# EAGLE library part MPQ4420Q (library NicksParts)
High Efficiency 2A, 36V, Synchronous Step Down Converter
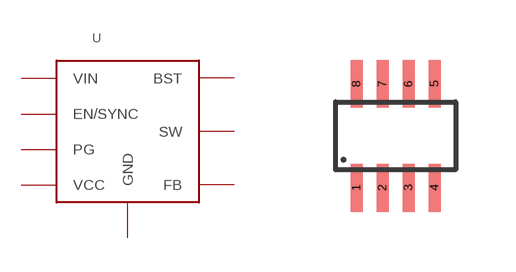
[diagram p18: symbol with the pads of SOT-23-8; footprint SOT-23-8]

Designator prefix U

## MPQ4420Q  [SOT-23-8]
1  PG
2  VIN
3  SW
4  GND
5  BST
6  EN/SYNC
7  VCC
8  FB

## Footprint SOT-23-8 (pad centres in mm)
smd 0.3 x 1.2: 1 -0.975,-1.3; 2 -0.325,-1.3; 3 0.325,-1.3; 4 0.975,-1.3; 5 0.975,1.3; 6 0.325,1.3; 7 -0.325,1.3; 8 -0.975,1.3